# EAGLE library part 74LVC2G07 (library 74XXX-little-logic)
DUAL BUFFER/DRIVER WITH OPEN-DRAIN OUTPUTS
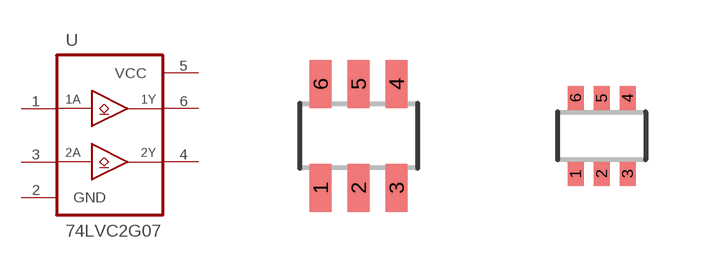
[diagram p1: symbol with the pads of SOT23-6; footprints SOT23-6, SC70-6]

Designator prefix U

## 74LVC2G07DBV (P1I: o)  [SOT23-6]
1  1A  in
2  GND  pwr
3  2A  in
4  2Y  out
5  VCC  pwr
6  1Y  out

## 74LVC2G07DCK (P1I: o)  [SC70-6]
Pads as for SOT23-6

## 74LVC2G07DRL (P1I: o)  [SOT-6]
Pads as for SOT23-6

## Footprint SOT23-6 (pad centres in mm)
SOT-23 - DBV 0.95 mm pitch
smd 0.55 x 1.2: 1 -0.95,-1.3; 2 0,-1.3; 3 0.95,-1.3; 4 0.95,1.3; 5 0,1.3; 6 -0.95,1.3

## Footprint SC70-6 (pad centres in mm)
SC70 - DCK 0.65 mm pitch
smd 0.4 x 0.6: 1 -0.65,-0.95; 2 0,-0.95; 3 0.65,-0.95; 4 0.65,0.95; 5 0,0.95; 6 -0.65,0.95

## Footprint SOT-6 (pad centres in mm)
SOT - DRL 0.50 mm pitch
smd 0.55 x 1.2: 1 -1,-1.5; 2 0,-1.5; 3 1,-1.5; 4 1,1.5; 5 0,1.5; 6 -1,1.5